# Altium schematic symbol library PC827.SchLib: 1 symbol
Pins are listed as number, name and electrical type; pins without a type are passive.

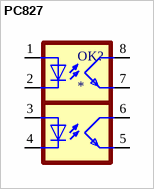
[diagram p0: symbol PC827]

## PC827
designator OK?
PowerPC G2_LE Microprocessor IC MPC82xx 1 Core, 32-Bit 450MHz 480-TBGA (37.5x37.5); MF: Sharp Microelectronics; MP: PC827; Price: None; SnapEDA_Link: https://www.snapeda.com/parts/PC827/Sharp%20Microelectronics/view-part/1087397/?ref=snap; Availability: Unavailable; Value: *; Package: DIP-8 Sharp; Check_prices: https://www.snapeda.com/parts/PC827/Sharp%20Microelectronics/view-part/1087397/?ref=eda
footprint DIL08
pins: 1 A, 2 C, 3 A, 4 C, 5 EMIT, 6 COL, 7 EMIT, 8 COL